# Altium footprint library KXTJ3-1057.PcbLib: 1 footprints
Each footprint in its own frame and in the unit in brackets; x right, y up, seen from the top. Pads: shape width x height; smd on the part's side, far side on the other; paste and mask are expansions set on the pad; w line width, h text height; cw(c..) or ccw(c..) is an arc to the next point about the centre after c.
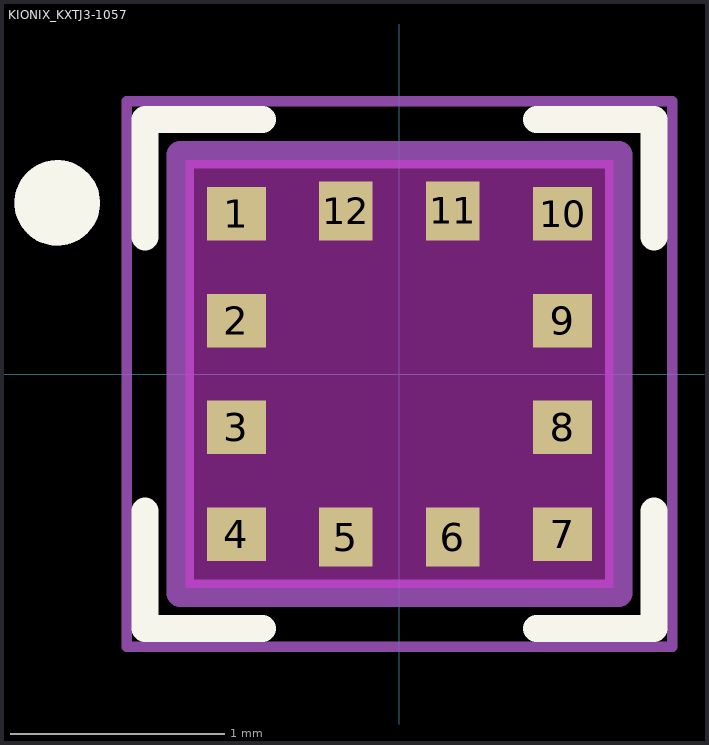
[diagram p0: the footprint, top view; thin cyan lines are the x and y axes]

## KIONIX_KXTJ3-1057 [mm]
pads (12):
  rect 0.275x0.25 smd: 1(-0.763,0.75) 2(-0.763,0.25) 3(-0.763,-0.25) 4(-0.763,-0.75) 7(0.763,-0.75) 8(0.763,-0.25) 9(0.763,0.25) 10(0.763,0.75)
  rect 0.25x0.275 smd: 5(-0.25,-0.763) 6(0.25,-0.763) 11(0.25,0.763) 12(-0.25,0.763)
Top Overlay:
  circle w0.2: c-1.6,0.8 r0.1
  lines w0.127: -1.19,-0.64 -1.19,-1.19 -0.64,-1.19 ; -1.19,0.64 -1.19,1.19 -0.64,1.19 ; 0.64,-1.19 1.19,-1.19 1.19,-0.64 ; 0.64,1.19 1.19,1.19 1.19,0.64
Keep-Out Layer:
  region: 1,-1 -1,-1 -1,1 1,1
  region: 0.62,-0.62 -0.62,-0.62 -0.62,0.62 0.62,0.62
Mechanical 13:
  circle w0.2: c-1.6,0.8 r0.1
  lines w0.127: -1.025,-1.025 -1.025,1.025 1.025,1.025 1.025,-1.025 -1.025,-1.025
Mechanical 15:
  lines w0.05: -1.275,-1.275 -1.275,1.275 1.275,1.275 1.275,-1.275 -1.275,-1.275